# EAGLE library part LCD (library kvitekp)
Character LCD module
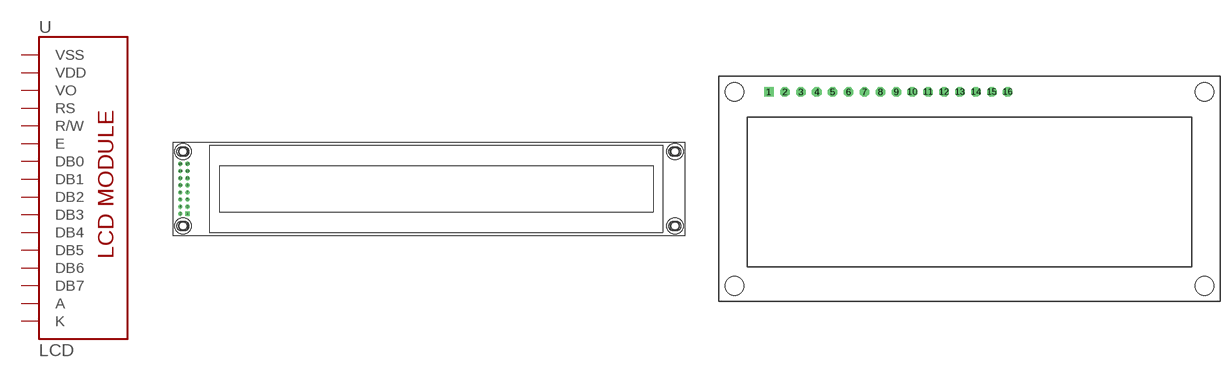
[diagram p9: symbol with the pads of LCD-40X2; footprints LCD-40X2, LCD-16X2]

Designator prefix -

## LCD'''  [LCD-40X2]
1  VSS  pwr
2  VDD  pwr
3  VO
4  RS  in
5  R/W  in
6  E  in
7  DB0
8  DB1
9  DB2
10  DB3
11  DB4
12  DB5
13  DB6
14  DB7
15  A  pwr
16  K  pwr

## LCD2X16  [LCD-16X2]
Pads as for LCD-40X2

## LCD  [LCD-16X2_DUMMY]

## Footprint LCD-40X2 (pad centres in mm)
drill 1.016 square: 1 -86.09,-9.46
drill 1.016: 2 -88.63,-9.46; 3 -86.09,-6.92; 4 -88.63,-6.92; 5 -86.09,-4.38; 6 -88.63,-4.38; 7 -86.09,-1.84; 8 -88.63,-1.84; 9 -86.09,0.7; 10 -88.63,0.7; 11 -86.09,3.24; 12 -88.63,3.24; 13 -86.09,5.78; 14 -88.63,5.78; 15 -86.09,8.32; 16 -88.63,8.32
hole 3.2 at -87.63,-13.8
hole 3.2 at 87.37,-13.8
hole 3.2 at 87.37,12.7
hole 3.2 at -87.63,12.718

## Footprint LCD-16X2 (pad centres in mm)
drill 1.016 square: 1 -32,15.5
drill 1.016 octagon: 2 -29.46,15.5; 3 -26.92,15.5; 4 -24.38,15.5; 5 -21.84,15.5; 6 -19.3,15.5; 7 -16.76,15.5; 8 -14.22,15.5; 9 -11.68,15.5; 10 -9.14,15.5; 11 -6.6,15.5; 12 -4.06,15.5; 13 -1.52,15.5; 14 1.02,15.5; 15 3.56,15.5; 16 6.1,15.5
hole 3 at -37.5,-15.5
hole 3 at -37.5,15.5
hole 3 at 37.5,-15.5
hole 3 at 37.5,15.5

## Footprint LCD-16X2_DUMMY (pad centres in mm)
drill 1.016 square: 1 -32,15.5
drill 1.016: 2 -29.46,15.5; 3 -26.92,15.5; 4 -24.38,15.5; 5 -21.84,15.5; 6 -19.3,15.5; 7 -16.76,15.5; 8 -14.22,15.5; 9 -11.68,15.5; 10 -9.14,15.5; 11 -6.6,15.5; 12 -4.06,15.5; 13 -1.52,15.5; 14 1.02,15.5; 15 3.56,15.5; 16 6.1,15.5